# Altium integrated library ACS712ELCTR-20A-T.IntLib: 1 symbol
Pins are listed as number, name and electrical type; pins without a type are passive.

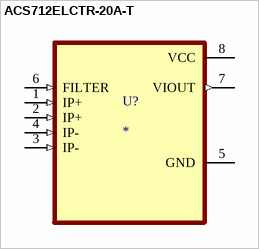
[diagram p0: symbol ACS712ELCTR-20A-T]

## ACS712ELCTR-20A-T
designator U?
Current Sensor 20A 1 Channel Hall Effect, Open Loop Bidirectional 8-SOIC (0.154, 3.90mm Width); MF: Allegro MicroSystems LLC; MP: ACS712ELCTR20AT; SnapEDA_Link: https://www.snapeda.com/parts/ACS712ELCTR20AT/Allegro/view-part/?ref=snap; Package: SOIC-8 Allegro MicroSystems LLC; Value: *; Check_prices: https://www.snapeda.com/parts/ACS712ELCTR20AT/Allegro/view-part/?ref=eda
footprint SOIC127P600X175-8N
pins: 1 IP+ (in), 2 IP+ (in), 3 IP- (in), 4 IP- (in), 5 GND (power), 6 FILTER (in), 7 VIOUT (out), 8 VCC (power)